# Altium footprint library common.PcbLib: 22 footprints (part 2 of 2)
Each footprint in its own frame and in the unit in brackets; x right, y up, seen from the top. Pads: shape width x height; smd on the part's side, far side on the other; paste and mask are expansions set on the pad; w line width, h text height; cw(c..) or ccw(c..) is an arc to the next point about the centre after c.
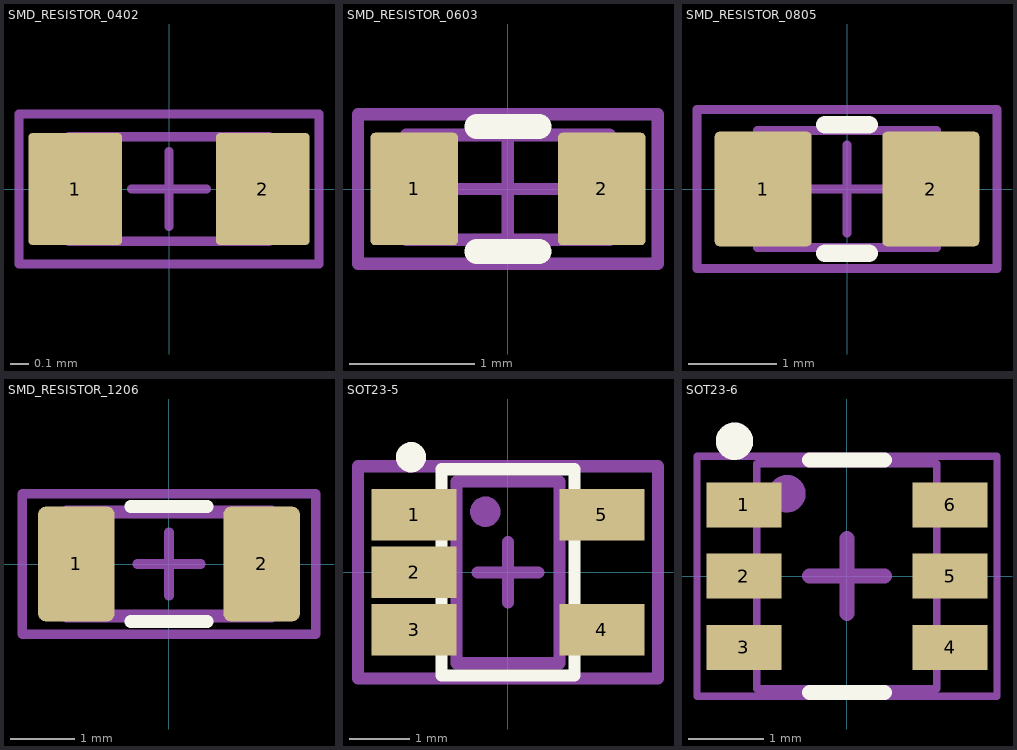
[diagram p1: the footprints below, top view; thin cyan lines are the x and y axes]

## SMD_RESISTOR_0402 [mm]
pads (2):
  rrect10% 0.5x0.6 smd paste-1 mask+0.06: 1(-0.5,0) 2(0.5,0)
Top Paste:
  region: 0.73,0.28 0.395,0.28 0.395,-0.28 0.73,-0.28
  region: 0.585,0.185 0.395,0.28 0.255,0 0.445,-0.095
  region: 0.445,0.095 0.255,0 0.395,-0.28 0.585,-0.185
  region: -0.585,-0.185 -0.395,-0.28 -0.255,0 -0.445,0.095
  region: -0.445,-0.095 -0.255,0 -0.395,0.28 -0.585,0.185
  rectangle: -0.73,-0.28 -0.395,0.28
Top 3D Body:
  lines w0.051: -0.533,-0.279 -0.533,0.279 0.533,0.279 0.533,-0.279 -0.533,-0.279
Top Assembly (Mech15):
  lines w0.05: -0.2,0 0.2,0 ; 0,-0.2 0,0.2 ; -0.8,-0.4 0.8,-0.4 0.8,0.4 -0.8,0.4 -0.8,-0.4
3D body "RES 0402.STEP": height 0.35, standoff 0, extent -0.5,-0.254 0.5,0.246

## SMD_RESISTOR_0603 [mm]
pads (2):
  rrect10% 0.7x0.9 smd paste-1 mask+0.08: 1(-0.75,0) 2(0.75,0)
Top Overlay:
  lines w0.2: -0.25,-0.5 0.25,-0.5 ; -0.25,0.5 0.25,0.5
Top Paste:
  region: 0.805,0.335 0.635,0.42 0.425,0 0.595,-0.085
  region: 0.595,0.085 0.425,0 0.635,-0.42 0.805,-0.335
  region: 1.07,0.42 0.635,0.42 0.635,-0.42 1.07,-0.42
  region: -0.805,-0.335 -0.635,-0.42 -0.425,0 -0.595,0.085
  region: -0.595,-0.085 -0.425,0 -0.635,0.42 -0.805,0.335
  rectangle: -1.07,-0.42 -0.635,0.42
Top 3D Body:
  lines w0.102: -0.813,-0.406 0.813,-0.406 0.813,0.432 -0.813,0.432 -0.813,-0.406
Top Assembly (Mech15):
  lines w0.1: -0.4,0 0.4,0 ; 0,-0.4 0,0.4 ; -1.2,-0.6 1.2,-0.6 1.2,0.6 -1.2,0.6 -1.2,-0.6
3D body "RES 0603.STEP": height 0.45, standoff 0, extent -0.8,-0.393 0.8,0.407

## SMD_RESISTOR_0805 [mm]
pads (2):
  rrect10% 1.1x1.3 smd paste-3: 1(-0.95,0) 2(0.95,0)
Top Overlay:
  lines w0.2: -0.25,-0.73 0.25,-0.73 ; -0.25,0.73 0.25,0.73
Top Paste:
  region: -0.651,0.6 -1.46,0.6 -1.46,-0.6 -0.651,-0.6
  region: -0.446,0.001 -0.74,0.101 -0.945,-0.499 -0.652,-0.6
  region: -0.652,0.6 -0.945,0.499 -0.74,-0.101 -0.446,-0.001
  region: 0.446,-0.001 0.74,-0.101 0.945,0.499 0.652,0.6
  region: 0.652,-0.6 0.945,-0.499 0.74,0.101 0.446,0.001
  rectangle: 0.651,-0.6 1.46,0.6
Top 3D Body:
  lines w0.102: -1.016,-0.66 -1.016,0.66 1.016,0.66 1.016,-0.66 -1.016,-0.66
Top Assembly (Mech15):
  lines w0.1: -0.5,0 0.5,0 ; 0,-0.5 0,0.5 ; -1.7,-0.9 1.7,-0.9 1.7,0.9 -1.7,0.9 -1.7,-0.9
3D body "RES 0805.STEP": height 0.6, standoff 0, extent -1,-0.635 1,0.615

## SMD_RESISTOR_1206 [mm]
pads (2):
  rrect20% 1.2x1.8 smd paste-1: 1(-1.45,0) 2(1.45,0)
Top Overlay:
  lines w0.2: -0.6,-0.9 0.6,-0.9 ; -0.6,0.9 0.6,0.9
Top Paste:
  region: 2,0.825 1.157,0.825 1.157,-0.825 2,-0.825
  region: 0.875,0 1.177,-0.103 1.459,0.722 1.158,0.825
  region: 1.158,-0.825 1.459,-0.722 1.177,0.103 0.875,0
  rectangle: -2,-0.825 -1.157,0.825
  region: -1.158,0.825 -1.459,0.722 -1.177,-0.103 -0.875,0
  region: -0.875,0 -1.177,0.103 -1.459,-0.722 -1.158,-0.825
Top 3D Body:
  lines w0.2: -1.6,-0.813 1.6,-0.813 1.6,0.813 -1.6,0.813 -1.6,-0.813
Top Assembly (Mech15):
  lines w0.15: -0.5,0 0.5,0 ; 0,-0.5 0,0.5 ; -2.3,-1.1 -2.3,1.1 2.3,1.1 2.3,-1.1 -2.3,-1.1
3D body "RES 1206.STEP": height 0.6, standoff 0, extent -1.6,-0.813 1.6,0.787

## SOT23-5 [mm] "SOT23-5"
height 1.1
pads (5):
  rect 1.4x0.85 smd: 1(-1.55,0.95) 2(-1.55,0) 3(-1.55,-0.95) 4(1.55,-0.95) 5(1.55,0.95)
Top Overlay:
  circle w0.25: c-1.6,1.9 r0.125
  lines w0.2: -1.1,-1.7 1.1,-1.7 1.1,1.7 -1.1,1.7 -1.1,-1.7
Top 3D Body:
  circle w0.25: c-0.375,1 r0.125
  lines w0.2: -0.85,-1.5 -0.85,1.5 0.85,1.5 0.85,-1.5 -0.85,-1.5
Top Assembly (Mech15):
  lines w0.2: -0.5,0 0.5,0 ; 0,-0.5 0,0.5 ; -2.475,-1.75 -2.475,1.75 2.475,1.75 2.475,-1.75 -2.475,-1.75
3D body: height 1.1, standoff 0.05, extent -0.85,-1.5 0.85,1.5

## SOT23-6 [mm] "SOT23-6"
height 1.1
pads (6):
  rect 1x0.6 smd: 1(-1.375,0.95) 2(-1.375,0) 3(-1.375,-0.95) 4(1.375,-0.95) 5(1.375,0) 6(1.375,0.95)
Top Overlay:
  circle w0.25: c-1.5,1.8 r0.125
  lines w0.2: -0.5,-1.55 0.5,-1.55 ; -0.5,1.55 0.5,1.55
Top 3D Body:
  circle w0.25: c-0.8,1.1 r0.125
  lines w0.1: -1.2,-1.5 1.2,-1.5 1.2,1.5 -1.2,1.5 -1.2,-1.5
Top Assembly (Mech15):
  lines w0.1: -2,-1.6 2,-1.6 2,1.6 -2,1.6 -2,-1.6
  lines w0.2: -0.5,0 0.5,0 ; 0,-0.5 0,0.5
3D body "SOT-23-6.STEP": height 1, standoff 0, extent -1.194,-1.449 1.194,1.451